# Altium schematic symbol library BD910.SchLib: 1 symbol
Pins are listed as number, name and electrical type; pins without a type are passive.

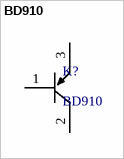
[diagram p0: symbol BD910]

## BD910
designator K?
PNP transistor
pins: 1 Base, 2 Collector, 3 Emitter